# EAGLE library part STM32F4XXVXT (library walkgeek-eagle)
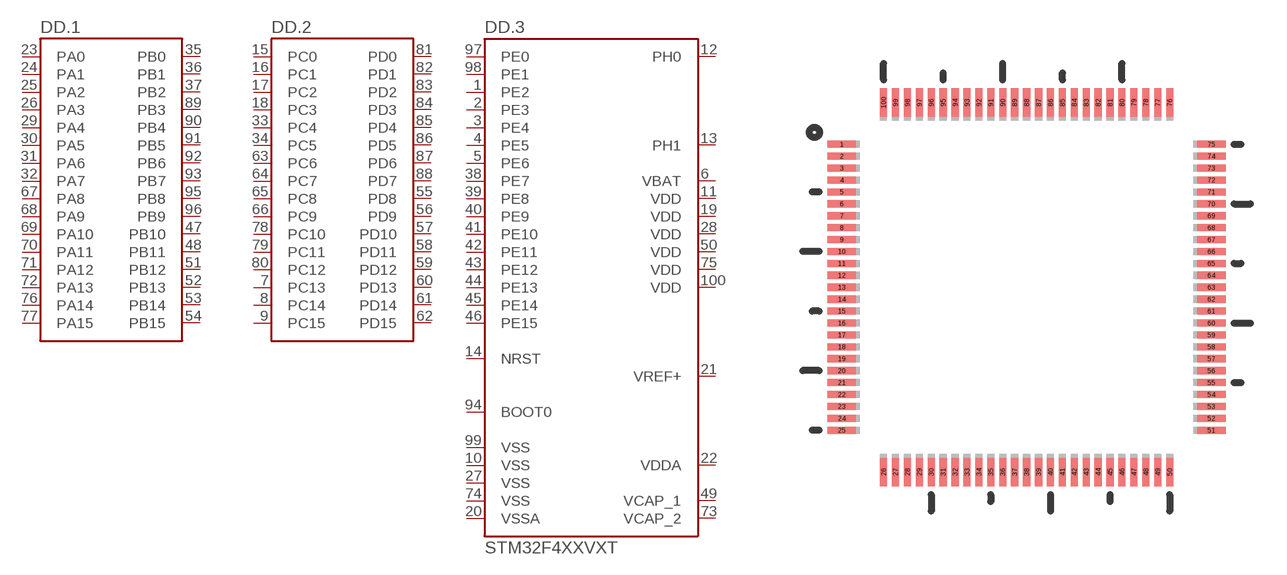
[diagram p8: symbol with the pads of LQFP100; footprint LQFP100]

Designator prefix DD; gates .1=STM32PAPB .2=STM32PCPD .3=STM32F4XXVXT

## STM32F4XXVXT  [LQFP100]
1  .3:PE2
2  .3:PE3
3  .3:PE4
4  .3:PE5
5  .3:PE6
6  .3:VBAT  pwr
7  .2:PC13
8  .2:PC14
9  .2:PC15
10  .3:VSS  pwr
11  .3:VDD  pwr
12  .3:PH0
13  .3:PH1
14  .3:NRST  in
15  .2:PC0
16  .2:PC1
17  .2:PC2
18  .2:PC3
19  .3:VDD  pwr
20  .3:VSSA  pwr
21  .3:VREF+  in
22  .3:VDDA  pwr
23  .1:PA0
24  .1:PA1
25  .1:PA2
26  .1:PA3
27  .3:VSS  pwr
28  .3:VDD  pwr
29  .1:PA4
30  .1:PA5
31  .1:PA6
32  .1:PA7
33  .2:PC4
34  .2:PC5
35  .1:PB0
36  .1:PB1
37  .1:PB2
38  .3:PE7
39  .3:PE8
40  .3:PE9
41  .3:PE10
42  .3:PE11
43  .3:PE12
44  .3:PE13
45  .3:PE14
46  .3:PE15
47  .1:PB10
48  .1:PB11
49  .3:VCAP_1  out
50  .3:VDD  pwr
51  .1:PB12
52  .1:PB13
53  .1:PB14
54  .1:PB15
55  .2:PD8
56  .2:PD9
57  .2:PD10
58  .2:PD11
59  .2:PD12
60  .2:PD13
61  .2:PD14
62  .2:PD15
63  .2:PC6
64  .2:PC7
65  .2:PC8
66  .2:PC9
67  .1:PA8
68  .1:PA9
69  .1:PA10
70  .1:PA11
71  .1:PA12
72  .1:PA13
73  .3:VCAP_2  out
74  .3:VSS  pwr
75  .3:VDD  pwr
76  .1:PA14
77  .1:PA15
78  .2:PC10
79  .2:PC11
80  .2:PC12
81  .2:PD0
82  .2:PD1
83  .2:PD2
84  .2:PD3
85  .2:PD4
86  .2:PD5
87  .2:PD6
88  .2:PD7
89  .1:PB3
90  .1:PB4
91  .1:PB5
92  .1:PB6
93  .1:PB7
94  .3:BOOT0  in
95  .1:PB8
96  .1:PB9
97  .3:PE0
98  .3:PE1
99  .3:VSS  in
100  .3:VDD  pwr

## Footprint LQFP100 (pad centres in mm)
LQFP100 Auto generated by make-symbol-device-package-bsdl.ulp Rev. 43
smd 1.2 x 0.3: 1 -7.75,6; 2 -7.75,5.5; 3 -7.75,5; 4 -7.75,4.5; 5 -7.75,4; 6 -7.75,3.5; 7 -7.75,3; 8 -7.75,2.5; 9 -7.75,2; 10 -7.75,1.5; 11 -7.75,1; 12 -7.75,0.5; 13 -7.75,0; 14 -7.75,-0.5; 15 -7.75,-1; 16 -7.75,-1.5; 17 -7.75,-2; 18 -7.75,-2.5; 19 -7.75,-3; 20 -7.75,-3.5; 21 -7.75,-4; 22 -7.75,-4.5; 23 -7.75,-5; 24 -7.75,-5.5; 25 -7.75,-6; 51 7.75,-6; 52 7.75,-5.5; 53 7.75,-5; 54 7.75,-4.5; 55 7.75,-4; 56 7.75,-3.5; 57 7.75,-3; 58 7.75,-2.5; 59 7.75,-2; 60 7.75,-1.5; 61 7.75,-1; 62 7.75,-0.5; 63 7.75,0; 64 7.75,0.5; 65 7.75,1; 66 7.75,1.5; 67 7.75,2; 68 7.75,2.5; 69 7.75,3; 70 7.75,3.5; 71 7.75,4; 72 7.75,4.5; 73 7.75,5; 74 7.75,5.5; 75 7.75,6
smd 0.3 x 1.2: 26 -6,-7.75; 27 -5.5,-7.75; 28 -5,-7.75; 29 -4.5,-7.75; 30 -4,-7.75; 31 -3.5,-7.75; 32 -3,-7.75; 33 -2.5,-7.75; 34 -2,-7.75; 35 -1.5,-7.75; 36 -1,-7.75; 37 -0.5,-7.75; 38 0,-7.75; 39 0.5,-7.75; 40 1,-7.75; 41 1.5,-7.75; 42 2,-7.75; 43 2.5,-7.75; 44 3,-7.75; 45 3.5,-7.75; 46 4,-7.75; 47 4.5,-7.75; 48 5,-7.75; 49 5.5,-7.75; 50 6,-7.75; 76 6,7.75; 77 5.5,7.75; 78 5,7.75; 79 4.5,7.75; 80 4,7.75; 81 3.5,7.75; 82 3,7.75; 83 2.5,7.75; 84 2,7.75; 85 1.5,7.75; 86 1,7.75; 87 0.5,7.75; 88 0,7.75; 89 -0.5,7.75; 90 -1,7.75; 91 -1.5,7.75; 92 -2,7.75; 93 -2.5,7.75; 94 -3,7.75; 95 -3.5,7.75; 96 -4,7.75; 97 -4.5,7.75; 98 -5,7.75; 99 -5.5,7.75; 100 -6,7.75